# Altium footprint library SW_500ASSP1M6QE.PcbLib: 1 footprints
Each footprint in its own frame and in the unit in brackets; x right, y up, seen from the top. Pads: shape width x height; smd on the part's side, far side on the other; paste and mask are expansions set on the pad; w line width, h text height; cw(c..) or ccw(c..) is an arc to the next point about the centre after c.
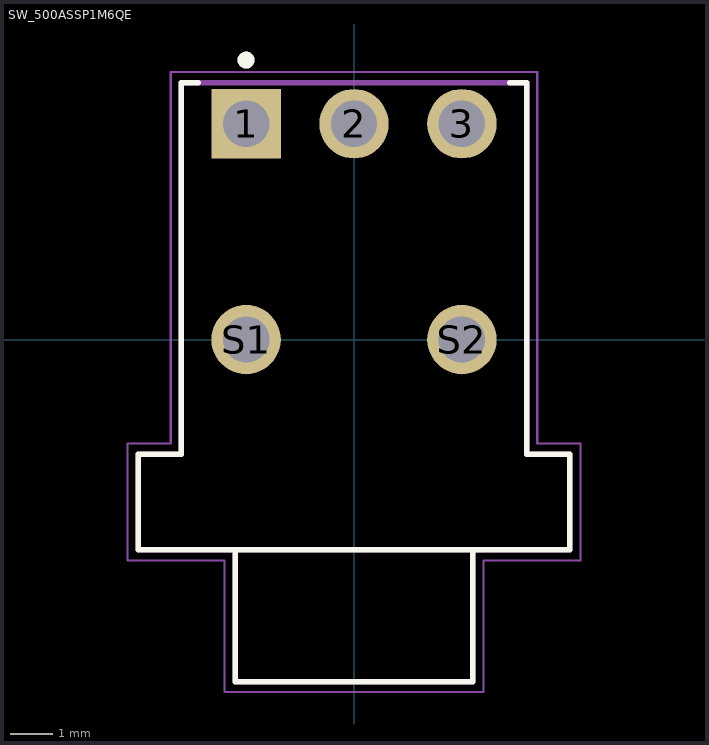
[diagram p0: the footprint, top view; thin cyan lines are the x and y axes]

## SW_500ASSP1M6QE [mm]
height 5.59
pads (5):
  rect 1.635x1.635 hole 1.09: 1(-2.54,5.08)
  round 1.635 hole 1.09: 2(0,5.08) 3(2.54,5.08) S1(-2.54,0) S2(2.54,0)
Top Overlay:
  circle w0.2: c-2.54,6.58 r0.1
  lines w0.127: -3.671,6.05 -4.065,6.05 -4.065,-2.7 -5.08,-2.7 -5.08,-4.95 -2.8,-4.95 ; 3.671,6.05 4.065,6.05 4.065,-2.7 5.08,-2.7 5.08,-4.95 2.8,-4.95 ; -2.8,-4.95 -2.8,-8.05 2.8,-8.05 2.8,-4.95 ; -2.8,-4.95 2.8,-4.95
Mechanical 13:
  circle w0.2: c-2.54,6.58 r0.1
  lines w0.127: -2.8,-4.95 2.8,-4.95 ; -2.8,-4.95 -5.08,-4.95 -5.08,-2.7 -4.065,-2.7 -4.065,6.05 4.065,6.05 4.065,-2.7 5.08,-2.7 5.08,-4.95 2.8,-4.95 ; -2.8,-4.95 -2.8,-8.05 2.8,-8.05 2.8,-4.95
Mechanical 15:
  lines w0.05: -5.33,-5.2 -3.05,-5.2 -3.05,-8.3 3.05,-8.3 3.05,-5.2 5.33,-5.2 5.33,-2.45 4.315,-2.45 4.315,6.3 -4.315,6.3 -4.315,-2.45 -5.33,-2.45 -5.33,-5.2